# EAGLE library part M-2X05- (library con-headers-jp)
MALE HEADER
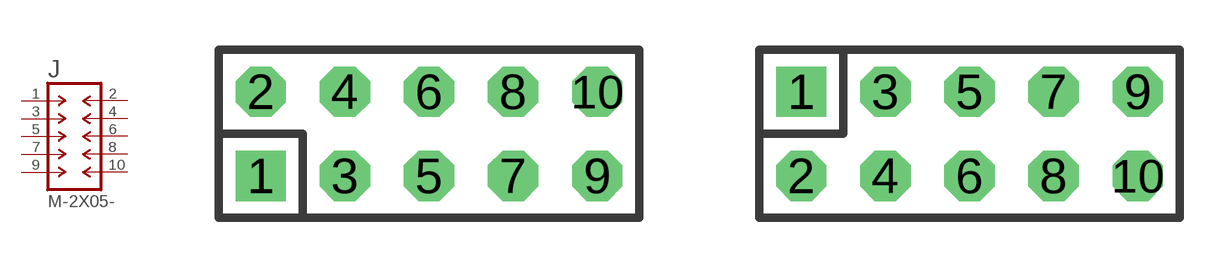
[diagram p62: symbol with the pads of DIL-100-2X05; footprints DIL-100-2X05, DIL-100-2X05_M]

Designator prefix J

## M-2X05-DIL-100  [DIL-100-2X05]
1  1  pas
2  2  pas
3  3  pas
4  4  pas
5  5  pas
6  6  pas
7  7  pas
8  8  pas
9  9  pas
10  10  pas

## M-2X05-DIL-100_M  [DIL-100-2X05_M]
Pads as for DIL-100-2X05

## M-2X05-DIL-2MM  [DIL-2MM-2X05]
Pads as for DIL-100-2X05

## M-2X05-DIL-2MM_M  [DIL-2MM-2X05_M]
Pads as for DIL-100-2X05

## M-2X05-87759  [87759-10]
Pads as for DIL-100-2X05

## M-2X05-87759_M  [87759-10_M]
Pads as for DIL-100-2X05

## M-2X05-100-SHROUD (MFPN: 30310-6002HB)  [30310-6002HB]
Pads as for DIL-100-2X05

## Footprint DIL-100-2X05 (pad centres in mm)
PIN HEADER - 0.1"
drill 1.016 square: 1 -5.08,-1.27
drill 1.016 octagon: 2 -5.08,1.27; 3 -2.54,-1.27; 4 -2.54,1.27; 5 0,-1.27; 6 0,1.27; 7 2.54,-1.27; 8 2.54,1.27; 9 5.08,-1.27; 10 5.08,1.27

## Footprint DIL-100-2X05_M (pad centres in mm)
PIN HEADER - MIRRORED 0.1"
drill 1.016 square: 1 -5.08,1.27
drill 1.016 octagon: 2 -5.08,-1.27; 3 -2.54,1.27; 4 -2.54,-1.27; 5 0,1.27; 6 0,-1.27; 7 2.54,1.27; 8 2.54,-1.27; 9 5.08,1.27; 10 5.08,-1.27

## Footprint DIL-2MM-2X05 (pad centres in mm)
PIN HEADER - 2MM"
drill 0.711 pad 1.321 square: 1 -4,-1
drill 0.711 pad 1.321: 2 -4,1; 3 -2,-1; 4 -2,1; 5 0,-1; 6 0,1; 7 2,-1; 8 2,1; 9 4,-1; 10 4,1

## Footprint DIL-2MM-2X05_M (pad centres in mm)
PIN HEADER - MIRRORED 2MM
drill 0.711 pad 1.321 square: 1 -4,1
drill 0.711 pad 1.321: 2 -4,-1; 3 -2,1; 4 -2,-1; 5 0,1; 6 0,-1; 7 2,1; 8 2,-1; 9 4,1; 10 4,-1

## Footprint 87759-10 (pad centres in mm)
Molex PCB Pin Headers 2.00mm (.079") Pitch Milli-Grid Header, Vertical SMD
smd 1 x 2.75: 1 -4,-2.15; 2 -4,2.15; 3 -2,-2.15; 4 -2,2.15; 5 0,-2.15; 6 0,2.15; 7 2,-2.15; 8 2,2.15; 9 4,-2.15; 10 4,2.15
hole 1 at -3,0
hole 1 at 3,0

## Footprint 87759-10_M (pad centres in mm)
Molex PCB Pin Headers - MIRRORED PADS 2.00mm (.079") Pitch Milli-Grid Header, Vertical SMD
smd 1 x 2.75: 1 -4,2.15; 2 -4,-2.15; 3 -2,2.15; 4 -2,-2.15; 5 0,2.15; 6 0,-2.15; 7 2,2.15; 8 2,-2.15; 9 4,2.15; 10 4,-2.15
hole 1 at -3,0
hole 1 at 3,0

## Footprint 30310-6002HB (pad centres in mm)
10 Positions Header, Shrouded Connector 0.100" (2.54mm) Through Hole Gold Datasheet <http://multimedia.3m.com/mws/media/22504O/3mtm-100-in-loprof-hdr-100x-100strt-ra-4-wall-ts0818.pdf>
drill 1 square: 1 -5.08,-1.27
drill 1: 2 -5.08,1.27; 3 -2.54,-1.27; 4 -2.54,1.27; 5 0,-1.27; 6 0,1.27; 7 2.54,-1.27; 8 2.54,1.27; 9 5.08,-1.27; 10 5.08,1.27